# Altium footprint library Switch.PcbLib: 29 footprints (part 2 of 2)
Each footprint in its own frame and in the unit in brackets; x right, y up, seen from the top. Pads: shape width x height; smd on the part's side, far side on the other; paste and mask are expansions set on the pad; w line width, h text height; cw(c..) or ccw(c..) is an arc to the next point about the centre after c.
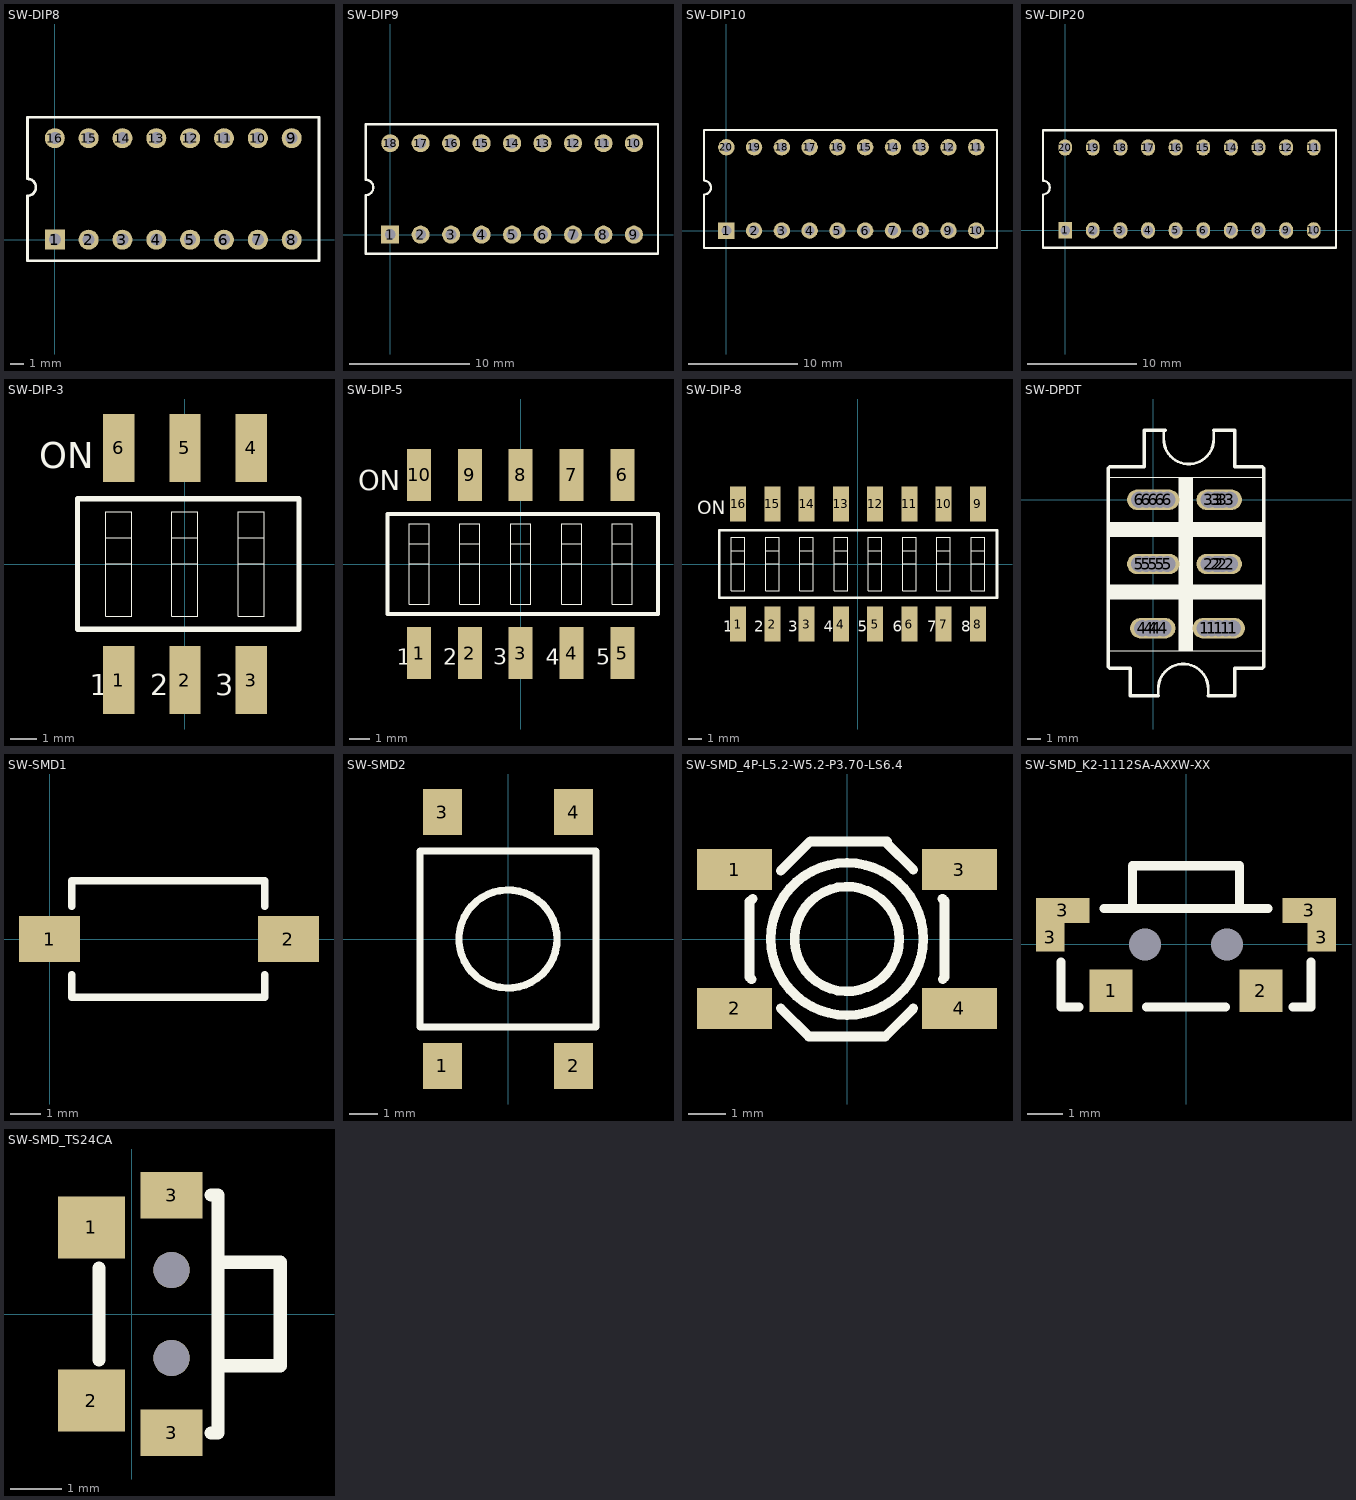
[diagram p1: the footprints below, top view; thin cyan lines are the x and y axes]

## SW-DIP8 [mm] "DIP; 16 Leads; Row Spacing 7.62 mm; Pitch 2.54 mm"
pads (16):
  rect 1.5x1.5 hole 0.9: 1(0,0)
  round 1.5 hole 0.9: 2(2.54,0) 3(5.08,0) 4(7.62,0) 5(10.16,0) 6(12.7,0) 7(15.24,0) 8(17.78,0) 9(17.78,7.62) 10(15.24,7.62) 11(12.7,7.62) 12(10.16,7.62) 13(7.62,7.62) 14(5.08,7.62) 15(2.54,7.62) 16(0,7.62)
Top Overlay:
  lines w0.2: -2.05,4.57 cw(c-2.05,3.935) -2.05,3.3 -2.05,-1.59 19.83,-1.59 19.83,9.2 -2.05,9.2 -2.05,4.6
3D body "SW3dPS-DIP SWITCH 8 POS CTS 206.STEP": height 8.25, standoff -3.5, extent -2.286,-1.08 20.214,8.7

## SW-DIP9 [mm] "DIP; 16 Leads; Row Spacing 7.62 mm; Pitch 2.54 mm"
pads (18):
  rect 1.5x1.5 hole 0.9: 1(0,0)
  round 1.5 hole 0.9: 2(2.54,0) 3(5.08,0) 4(7.62,0) 5(10.16,0) 6(12.7,0) 7(15.24,0) 8(17.78,0) 9(20.32,0) 10(20.32,7.62) 11(17.78,7.62) 12(15.24,7.62) 13(12.7,7.62) 14(10.16,7.62) 15(7.62,7.62) 16(5.08,7.62) 17(2.54,7.62) 18(0,7.62)
Top Overlay:
  lines w0.2: -2.05,4.57 cw(c-2.05,3.935) -2.05,3.3 -2.05,-1.59 22.327,-1.59 22.327,9.2 -2.05,9.2 -2.05,4.6
3D body "DIPSWITCH9.STEP": height 6.9, standoff -3.2, extent -2.046,-1.245 22.174,8.915

## SW-DIP10 [mm] "DIP; 16 Leads; Row Spacing 7.62 mm; Pitch 2.54 mm"
pads (20):
  rect 1.5x1.5 hole 0.9: 1(0,0)
  round 1.5 hole 0.9: 2(2.54,0) 3(5.08,0) 4(7.62,0) 5(10.16,0) 6(12.7,0) 7(15.24,0) 8(17.78,0) 9(20.32,0) 10(22.86,0) 11(22.86,7.62) 12(20.32,7.62) 13(17.78,7.62) 14(15.24,7.62) 15(12.7,7.62) 16(10.16,7.62) 17(7.62,7.62) 18(5.08,7.62) 19(2.54,7.62) 20(0,7.62)
Top Overlay:
  lines w0.2: -2.05,4.57 cw(c-2.05,3.935) -2.05,3.3 -2.05,-1.59 24.765,-1.59 24.765,9.2 -2.05,9.2 -2.05,4.6
3D body "DIPSWITCH10.STEP": height 6.9, standoff -3.2, extent -2.007,-1.295 24.753,8.865

## SW-DIP20 [mm] "DIP; 16 Leads; Row Spacing 7.62 mm; Pitch 2.54 mm"
pads (20):
  rect 1.27x1.5 hole 0.9: 1(0,0)
  oval 1.27x1.5 hole 0.9: 2(2.54,0) 3(5.08,0) 4(7.62,0) 5(10.16,0) 6(12.7,0) 7(15.24,0) 8(17.78,0) 9(20.32,0) 10(22.86,0) 11(22.86,7.62) 12(20.32,7.62) 13(17.78,7.62) 14(15.24,7.62) 15(12.7,7.62) 16(10.16,7.62) 17(7.62,7.62) 18(5.08,7.62) 19(2.54,7.62) 20(0,7.62)
Top Overlay:
  lines w0.2: -2.05,-1.59 -2.05,3.3 ccw(c-2.05,3.935) -2.05,4.57 ; -2.05,4.6 -2.05,9.2 ; 24.91,-1.59 24.91,9.2
  lines w0.203: -2.05,-1.59 24.892,-1.59 ; -2.05,9.2 24.892,9.2
3D body "User Library-DIP Switch Piano 10X.STEP": height 8.71, standoff -3.99, extent -2.086,-2.639 24.794,8.661

## SW-DIP-3 [mm] "DIP Switch; 16 Leads"
height 5.06
pads (6):
  rect 1.2x2.6 smd: 1(-2.54,-4.45) 2(0,-4.45) 3(2.54,-4.45) 4(2.54,4.45) 5(0,4.45) 6(-2.54,4.45)
Top Overlay:
  lines w0.025: -3.04,0 -2.04,0 ; -3.04,1 -2.04,1 ; -0.5,0 0.5,0 ; -0.5,1 0.5,1 ; 2.04,0 3.04,0 ; 2.04,1 3.04,1 ; -3.04,-2 -3.04,2 -2.04,2 -2.04,-2 -3.04,-2 ; -0.5,-2 -0.5,2 0.5,2 0.5,-2 -0.5,-2 ; 2.04,-2 2.04,2 3.04,2 3.04,-2 2.04,-2
  lines w0.2: -4.115,-2.5 -4.115,2.5 4.369,2.5 4.369,-2.5 -4.115,-2.5
  text "3" at 1.169,-5.032 h0.8
  text "2" at -1.331,-5.032 h0.8
  text "1" at -3.656,-5.032 h0.8
  text "ON" at -5.588,3.678 h1
3D body "DIP3.stp": height 4.4, standoff 0, extent -4.293,-4.951 4.267,4.849

## SW-DIP-5 [mm] "DIP Switch; 16 Leads"
height 5.06
pads (10):
  rect 1.2x2.6 smd: 1(-5.08,-4.45) 2(-2.54,-4.45) 3(0,-4.45) 4(2.54,-4.45) 5(5.08,-4.45) 6(5.08,4.45) 7(2.54,4.45) 8(0,4.45) 9(-2.54,4.45) 10(-5.08,4.45)
Top Overlay:
  lines w0.025: -5.58,0 -4.58,0 ; -5.58,1 -4.58,1 ; -3.04,0 -2.04,0 ; -3.04,1 -2.04,1 ; -0.5,0 0.5,0 ; -0.5,1 0.5,1 ; 2.04,0 3.04,0 ; 2.04,1 3.04,1 ; 4.58,0 5.58,0 ; 4.58,1 5.58,1 ; -5.58,-2 -5.58,2 -4.58,2 -4.58,-2 -5.58,-2 ; -3.04,-2 -3.04,2 -2.04,2 -2.04,-2 -3.04,-2 ; -0.5,-2 -0.5,2 0.5,2 0.5,-2 -0.5,-2 ; 2.04,-2 2.04,2 3.04,2 3.04,-2 2.04,-2 ; 4.58,-2 4.58,2 5.58,2 5.58,-2 4.58,-2
  lines w0.2: -6.655,-2.5 -6.655,2.5 6.858,2.5 6.858,-2.5 -6.655,-2.5
  text "5" at 3.779,-5.032 h0.8
  text "4" at 1.254,-5.032 h0.8
  text "3" at -1.371,-5.032 h0.8
  text "2" at -3.871,-5.032 h0.8
  text "1" at -6.196,-5.032 h0.8
  text "ON" at -8.128,3.678 h1
3D body "DIP5.stp": height 4.4, standoff 0, extent -6.795,-5.105 6.845,4.695

## SW-DIP-8 [mm] "DIP Switch; 16 Leads"
height 5.06
pads (16):
  rect 1.2x2.6 smd: 1(-8.89,-4.45) 2(-6.35,-4.45) 3(-3.81,-4.45) 4(-1.27,-4.45) 5(1.27,-4.45) 6(3.81,-4.45) 7(6.35,-4.45) 8(8.89,-4.45) 9(8.89,4.45) 10(6.35,4.45) 11(3.81,4.45) 12(1.27,4.45) 13(-1.27,4.45) 14(-3.81,4.45) 15(-6.35,4.45) 16(-8.89,4.45)
Top Overlay:
  lines w0.025: -9.39,0 -8.39,0 ; -9.39,1 -8.39,1 ; -6.85,0 -5.85,0 ; -6.85,1 -5.85,1 ; -4.31,0 -3.31,0 ; -4.31,1 -3.31,1 ; -1.77,0 -0.77,0 ; -1.77,1 -0.77,1 ; 0.77,0 1.77,0 ; 0.77,1 1.77,1 ; 3.31,0 4.31,0 ; 3.31,1 4.31,1 ; 5.85,0 6.85,0 ; 5.85,1 6.85,1 ; 8.39,0 9.39,0 ; 8.39,1 9.39,1 ; -9.39,-2 -9.39,2 -8.39,2 -8.39,-2 -9.39,-2 ; -6.85,-2 -6.85,2 -5.85,2 -5.85,-2 -6.85,-2 ; -4.31,-2 -4.31,2 -3.31,2 -3.31,-2 -4.31,-2 ; -1.77,-2 -1.77,2 -0.77,2 -0.77,-2 -1.77,-2 ; 0.77,-2 0.77,2 1.77,2 1.77,-2 0.77,-2 ; 3.31,-2 3.31,2 4.31,2 4.31,-2 3.31,-2 ; 5.85,-2 5.85,2 6.85,2 6.85,-2 5.85,-2 ; 8.39,-2 8.39,2 9.39,2 9.39,-2 8.39,-2
  lines w0.2: -10.29,-2.5 -10.29,2.5 10.31,2.5 10.31,-2.5 -10.29,-2.5
  text "6" at 2.569,-5.032 h0.8
  text "5" at -0.031,-5.032 h0.8
  text "4" at -2.556,-5.032 h0.8
  text "3" at -5.181,-5.032 h0.8
  text "2" at -7.681,-5.032 h0.8
  text "1" at -10.006,-5.032 h0.8
  text "ON" at -11.938,3.678 h1
  text "7" at 5.119,-5.032 h0.8
  text "8" at 7.659,-5.032 h0.8
3D body "SW3dPS-219-8MST.STEP": height 4.3, standoff 0.05, extent -10.182,-4.83 10.182,5.08

## SW-DPDT [mm]
pads (30):
  oval 1.8x1.5 hole 1.2: 1(3.784,-9.4) 1(4.292,-9.4) 1(5.308,-9.4) 1(5.816,-9.4) 2(4.064,-4.7) 2(4.572,-4.7) 2(5.08,-4.7) 2(5.588,-4.7) 3(4.064,0) 3(4.572,0) 3(5.08,0) 3(5.588,0) 4(-0.788,-9.4) 4(-0.28,-9.4) 4(0.228,-9.4) 4(0.736,-9.4) 5(-1.016,-4.7) 5(-0.508,-4.7) 5(0.508,-4.7) 5(1.016,-4.7) 6(-1.016,0) 6(-0.508,0) 6(0.508,0) 6(1.016,0)
  oval 2x1.5 hole 1.2: 1(4.8,-9.4) 2(4.8,-4.7) 3(4.8,0) 4(0,-9.4) 5(0,-4.7) 6(0,0)
Top Overlay:
  rectangle: 1.892,-11.05 2.908,1.65
  rectangle: -3.3,-2.668 8.1,-1.652
  rectangle: -3.3,-7.24 7.988,-6.224
  lines w0.025: -3.3,-11.05 8.1,-11.05 8.1,1.65 -3.3,1.65 -3.3,-11.05
  lines w0.051: -3.3,-6.224 8.1,-6.224 ; -3.3,-1.652 8.1,-1.652 ; -3.188,-7.24 7.988,-7.24 ; -3.188,-2.668 8.1,-2.668 ; 1.892,-11.05 1.892,1.65 ; 2.908,-11.05 2.908,1.65
  lines w0.2: 0.368,-14.352 0.368,-13.844 cw(c2.2,-13.844) 4.031,-13.844 4.031,-14.352 ; 0.769,4.952 0.769,4.444 ccw(c2.6,4.444) 4.432,4.444 4.432,4.952
  lines w0.254: 0.368,-14.352 -1.156,-14.352 -1.664,-14.352 -1.664,-12.32 -3.188,-12.32 -3.3,-12.208 -3.3,-11.05 -3.3,1.65 -3.3,2.3 -3.188,2.412 -0.648,2.412 -0.648,5.1 0.876,5.1 ; 4.031,-14.352 5.956,-14.352 5.956,-12.32 7.988,-12.32 8.1,-12.208 8.1,-11.05 8.1,2.3 7.988,2.412 5.956,2.412 5.956,5.1 4.432,5.1

## SW-SMD1 [mm]
pads (2):
  rect 2x1.5 smd: 1(0,0) 2(7.8,0)
Top Overlay:
  lines w0.254: 0.725,-1.168 0.725,-1.9 7.025,-1.9 7.025,-1.168 ; 0.725,1.067 0.725,1.9 7.025,1.9 7.025,1.067
3D body "SMDKey.step": height 2.5, standoff 0, extent -0.045,-1.925 7.845,1.925

## SW-SMD2 [mm]
pads (4):
  rect 1.35x1.6 smd: 1(-2.275,-4.4) 2(2.275,-4.4) 3(-2.275,4.4) 4(2.275,4.4)
Top Overlay:
  circle w0.254: c0,0 r1.7
  lines w0.254: -3.05,-3.05 -3.05,3.05 3.05,3.05 3.05,-3.05 -3.05,-3.05
3D body: height 3.3, standoff 0, extent -3.177,-3.177 3.177,3.177
3D body: height 3.5, standoff 3.3, extent -3.177,-3.177 3.177,3.177
3D body: height 0.2, standoff 0, extent -2.6,-5 -1.9,-3.05
3D body: height 4.3, standoff 3.5, extent -1.697,-1.7 1.697,1.7
3D body: height 0.2, standoff 0, extent 1.9,-5 2.6,-3.05
3D body: height 0.2, standoff 0, extent -2.6,3.05 -1.9,5
3D body: height 0.2, standoff 0, extent 1.9,3.05 2.6,5

## SW-SMD_4P-L5.2-W5.2-P3.70-LS6.4 [mm] "C388295"
pads (4):
  rect 2x1.1 smd: 1(-3,1.85) 2(-3,-1.85) 3(3,1.85) 4(3,-1.85)
Top Overlay:
  circle w0.254: c0,0 r2.032
  circle w0.254: c0,0 r1.397
  lines w0.254: -2.547,-1.069 -2.6,-1.016 -2.6,-1 -2.6,1 -2.585,1 -2.516,1.069 ; -1.77,-1.846 -1.016,-2.6 1.021,-2.6 1.77,-1.852 ; -1.77,1.816 -0.985,2.6 1.067,2.6 1.067,2.549 1.77,1.846 ; 2.547,1.069 2.6,1.016 2.6,-0.984 2.6,-1.021 2.552,-1.069

## SW-SMD_K2-1112SA-AXXW-XX [mm] "C128949"
pads (8):
  rect 1.2x1.2 smd: 1(-2.1,-1.3) 2(2.1,-1.3)
  rect 0.8x0.8 smd: 3(-3.8,0.2) 3(3.8,0.2)
  rect 1.5x0.7 smd: 3(-3.45,0.95) 3(3.45,0.95)
  round 0 hole 0.9 unplated mask+0.102: ""(-1.15,0) ""(1.15,0)
Top Overlay:
  lines w0.254: -3.5,-0.5 -3.5,-1.75 -3,-1.75 ; -2.3,1 2.3,1 ; -1.5,1 -1.5,2.2 1.5,2.2 1.5,1 ; -1.1,-1.75 1.1,-1.75 ; 3,-1.75 3.5,-1.75 3.5,-0.5

## SW-SMD_TS24CA [mm] "C393942"
pads (6):
  rect 1.3x1.2 smd: 1(-0.775,1.675) 2(-0.775,-1.675)
  rect 1.2x0.9 smd: 3(0.775,-2.3) 3(0.775,2.3)
  round 0.7 hole 0.7 unplated: ""(0.775,-0.85) ""(0.775,0.85)
Top Overlay:
  lines w0.254: -0.625,-0.889 -0.625,0.889 ; 1.537,-2.3 1.675,-2.3 1.675,2.3 1.537,2.3 ; 1.675,-1 2.875,-1 2.875,1 1.675,1